# Altium schematic symbol library FGY75N60SMD.Schlib: 1 symbol
Pins are listed as number, name and electrical type; pins without a type are passive.

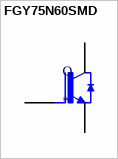
[diagram p0: symbol FGY75N60SMD]

## FGY75N60SMD
designator Q
IGBT Field Stop 600V 150A 750W Through Hole PowerTO-247-3
pins: 1 G, 2 C, 3 E